# Altium footprint library aPassive.PcbLib: 212 footprints (part 3 of 14)
Each footprint in its own frame and in the unit in brackets; x right, y up, seen from the top. Pads: shape width x height; smd on the part's side, far side on the other; paste and mask are expansions set on the pad; w line width, h text height; cw(c..) or ccw(c..) is an arc to the next point about the centre after c.
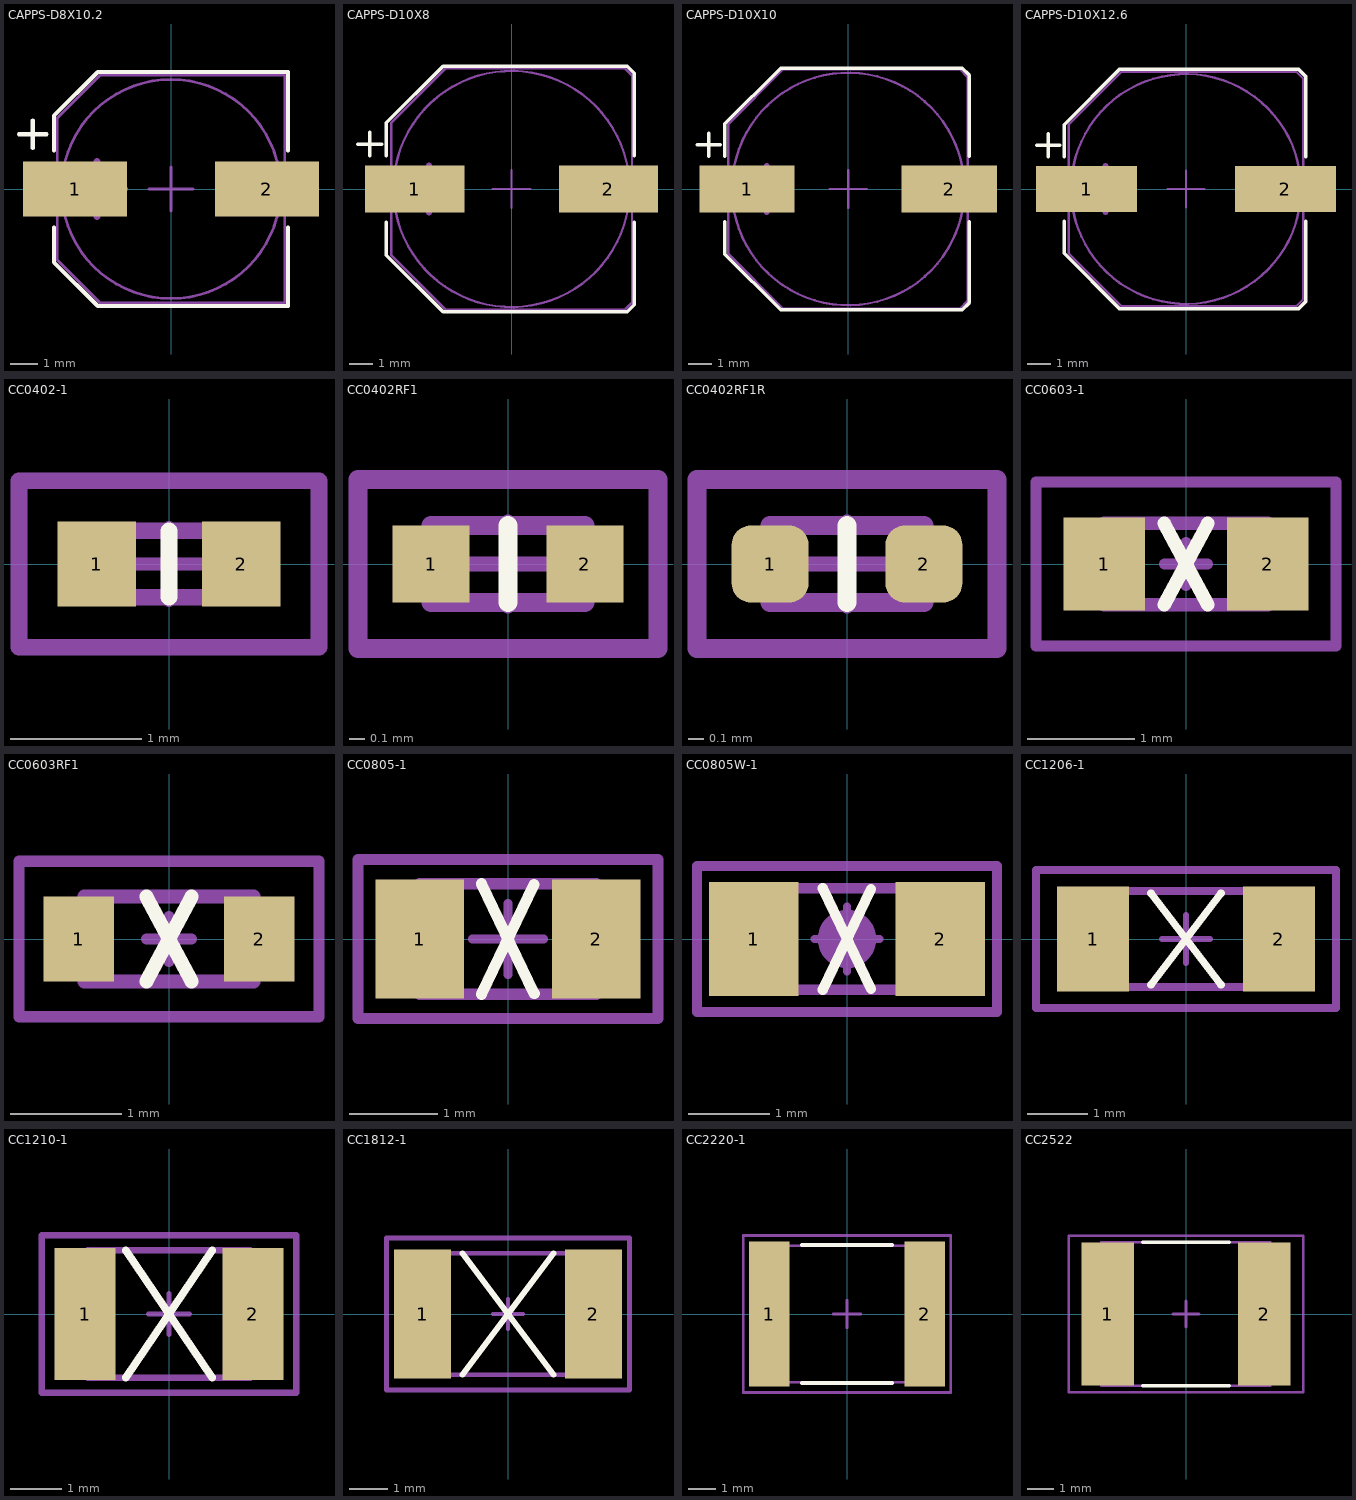
[diagram p2: the footprints below, top view; thin cyan lines are the x and y axes]

## CAPPS-D8X10.2 [mm] "Capacitor polarised SMD D8; 8.3X8.3X10.2"
height 10.2
pads (2):
  rect 3.8x2 smd: 1(-3.5,0) 2(3.5,0)
Top Overlay:
  lines w0.15: -5.55,2 -4.55,2 ; -5.05,1.5 -5.05,2.5 ; -4.275,-1.4 -4.275,-2.675 -2.675,-4.275 4.275,-4.275 4.275,-1.4 ; -4.275,1.4 -4.275,2.675 -2.675,4.275 4.275,4.275 4.275,1.4
Mechanical 13:
  circle w0.1: c0,0 r4
  lines w0.102: -4.15,-2.6 -2.6,-4.15 4.15,-4.15 4.15,4.15 -2.6,4.15 -4.15,2.6 -4.15,-2.6
  lines w0.25: -3.7,0 -1.7,0 ; -2.7,-1 -2.7,1
Mechanical 15:
  lines w0.102: -0.8,0 0.8,0 ; 0,-0.8 0,0.8
3D body: height 1.4, standoff 0, extent -4.15,-4.15 4.15,4.15
3D body: height 10.2, standoff 1.4, extent -4,-4 3.968,3.984
3D body: height 10.21, standoff 10.2, extent 1.9,-3.525 4,3.525

## CAPPS-D10X8 [mm] "Capacitor polarised SMD D10; 10.3X10.3X8mm"
height 8
pads (2):
  rect 4.2x2 smd: 1(-4.1,0) 2(4.1,0)
Top Overlay:
  lines w0.15: -6.5,1.9 -5.5,1.9 ; -6,1.4 -6,2.4 ; -5.3,-1.4 -5.3,-2.8 -2.9,-5.2 4.9,-5.2 5.2,-4.9 5.2,-1.4 ; -5.3,1.4 -5.3,2.8 -2.9,5.2 4.9,5.2 5.2,4.9 5.2,1.4
Mechanical 13:
  circle w0.1: c0,0 r5
  lines w0.102: -5.1,-2.8 -5.1,2.8 -2.8,5.1 4.8,5.1 5.1,4.8 5.1,-4.8 4.8,-5.1 -2.8,-5.1 -5.1,-2.8
  lines w0.25: -4.5,0 -2.5,0 ; -3.5,-1 -3.5,1
Mechanical 15:
  lines w0.102: -0.8,0 0.8,0 ; 0,-0.8 0,0.8
3D body: height 1.4, standoff 0, extent -5.1,-5.1 5.1,5.1
3D body: height 8, standoff 1.4, extent -5,-5 4.961,4.98
3D body: height 8.05, standoff 8, extent 2.75,-4.175 5,4.175

## CAPPS-D10X10 [mm] "Capacitor polarised SMD D10; 10.3x10.3x10mm"
height 10
pads (2):
  rect 4.1x2 smd: 1(-4.35,0) 2(4.35,0)
Top Overlay:
  lines w0.15: -6.5,1.9 -5.5,1.9 ; -6,1.4 -6,2.4 ; -5.3,-1.4 -5.3,-2.8 -2.9,-5.2 4.9,-5.2 5.2,-4.9 5.2,-1.4 ; -5.3,1.4 -5.3,2.8 -2.9,5.2 4.9,5.2 5.2,4.9 5.2,1.4
Mechanical 13:
  circle w0.1: c0,0 r5
  lines w0.102: -5.15,-2.8 -5.15,2.8 -2.8,5.15 4.8,5.15 5.15,4.8 5.15,-4.8 4.8,-5.15 -2.8,-5.15 -5.15,-2.8
  lines w0.25: -4.5,0 -2.5,0 ; -3.5,-1 -3.5,1
Mechanical 15:
  lines w0.102: -0.8,0 0.8,0 ; 0,-0.8 0,0.8
3D body: height 1.4, standoff 0, extent -5.15,-5.15 5.15,5.15
3D body: height 10, standoff 1.4, extent -5,-5 4.961,4.98
3D body: height 10.01, standoff 10, extent 2.75,-4.175 5,4.175

## CAPPS-D10X12.6 [mm] "Capacitor polarised SMD D10; 10.2x10.2x12.6mm"
height 12
pads (2):
  rect 4.4x2 smd: 1(-4.325,0) 2(4.325,0)
Top Overlay:
  lines w0.15: -6.5,1.9 -5.5,1.9 ; -6,1.4 -6,2.4 ; -5.3,-1.4 -5.3,-2.8 -2.9,-5.2 4.9,-5.2 5.2,-4.9 5.2,-1.4 ; -5.3,1.4 -5.3,2.8 -2.9,5.2 4.9,5.2 5.2,4.9 5.2,1.4
Mechanical 13:
  circle w0.1: c0,0 r5
  lines w0.102: -5.1,-2.8 -5.1,2.8 -2.8,5.1 4.8,5.1 5.1,4.8 5.1,-4.8 4.8,-5.1 -2.8,-5.1 -5.1,-2.8
  lines w0.25: -4.5,0 -2.5,0 ; -3.5,-1 -3.5,1
Mechanical 15:
  lines w0.102: -0.8,0 0.8,0 ; 0,-0.8 0,0.8
3D body: height 1.4, standoff 0, extent -5.1,-5.1 5.1,5.1
3D body: height 12.6, standoff 1.4, extent -5,-5 4.961,4.98
3D body: height 12.65, standoff 12.6, extent 2.75,-4.175 5,4.175

## CC0402-1 [mm] "Chip capacitor 0402"
height 0.5
pads (2):
  rect 0.6x0.65 smd: 1(-0.55,0) 2(0.55,0)
Top Overlay:
  lines w0.127: 0,-0.254 0,0.254
Mechanical 13:
  lines w0.127: -0.508,-0.254 0.508,-0.254 0.508,0.254 -0.508,0.254 -0.508,-0.254
Mechanical 15:
  lines w0.102: -0.3,0 0.3,0 ; 0,-0.275 0,0.275
  lines w0.127: -1.143,-0.635 -1.143,0.635 1.143,0.635 1.143,-0.635 -1.143,-0.635
3D body: height 0.5, standoff 0, extent -0.3,-0.254 0.3,0.254
3D body: height 0.5, standoff 0, extent 0.3,-0.254 0.508,0.254
3D body: height 0.5, standoff 0, extent -0.508,-0.254 -0.3,0.254

## CC0402RF1 [mil] "Chip capacitor 0402 RF pad"
height 19.68
pads (2):
  rect 20x20 smd: 1(-20,0) 2(20,0)
Top Overlay:
  lines w5: 0,-10 0,10
Mechanical 13:
  lines w5: -20,-10 20,-10 20,10 -20,10 -20,-10
Mechanical 15:
  lines w4: -11.81,0 11.81,0 ; 0,-10.83 0,10.83
  lines w5: -39,-22 -39,22 39,22 39,-22 -39,-22
3D body: height 19.68, standoff 0, extent -11.81,-10 11.81,10
3D body: height 19.68, standoff 0, extent 11.81,-10 20,10
3D body: height 19.68, standoff 0, extent -20,-10 -11.81,10

## CC0402RF1R [mil] "Chip capacitor 0402 RF ROUND pad"
height 19.68
pads (2):
  rrect50% 20x20 smd mask+1: 1(-20,0) 2(20,0)
Top Overlay:
  lines w5: 0,-10 0,10
Mechanical 13:
  lines w5: -20,-10 20,-10 20,10 -20,10 -20,-10
Mechanical 15:
  lines w4: -11.81,0 11.81,0 ; 0,-10.83 0,10.83
  lines w5: -39,-22 -39,22 39,22 39,-22 -39,-22
3D body: height 19.68, standoff 0, extent -11.81,-10 11.81,10
3D body: height 19.68, standoff 0, extent 11.81,-10 20,10
3D body: height 19.68, standoff 0, extent -20,-10 -11.81,10

## CC0603-1 [mil] "Chip capacitor 0603"
height 31.5
pads (2):
  rect 30x34 smd: 1(-30,0) 2(30,0)
Top Overlay:
  lines w5: -8,-15 8,15 ; -8,15 8,-15
Mechanical 13:
  lines w5: -30,-15 30,-15 30,15 -30,15 -30,-15
Mechanical 15:
  lines w3.94: -7.87,0 7.87,0 ; 0,-7.87 0,7.87
  lines w4: -55,-30 55,-30 55,30 -55,30 -55,-30
3D body: height 27.56, standoff 0, extent -20,-15 20,15
3D body: height 27.56, standoff 0, extent 20,-15 30,15
3D body: height 27.56, standoff 0, extent -30,-15 -20,15

## CC0603RF1 [mil] "Chip capacitor 0603 RF pad"
height 31.5
pads (2):
  rect 25x30 smd: 1(-32,0) 2(32,0)
Top Overlay:
  lines w5: -8,-15 8,15 ; -8,15 8,-15
Mechanical 13:
  lines w5: -30,-15 -30,15 30,15 30,-15 -30,-15
Mechanical 15:
  lines w3.94: -7.87,0 7.87,0 ; 0,-7.87 0,7.87
  lines w4: -53.15,-27.56 53.15,-27.56 53.15,27.56 -53.15,27.56 -53.15,-27.56
3D body: height 27.56, standoff 0, extent -30,-15 -20,15
3D body: height 27.56, standoff 0, extent 20,-15 30,15
3D body: height 27.56, standoff 0, extent -20,-15 20,15

## CC0805-1 [mm] "Chip capacitor  0805"
height 1.35
pads (2):
  rect 1x1.35 smd: 1(-1,0) 2(1,0)
Top Overlay:
  lines w0.127: -0.3,-0.625 0.296,0.616 ; -0.3,0.625 0.296,-0.618
Mechanical 13:
  lines w0.127: -1,-0.625 1,-0.625 1,0.625 -1,0.625 -1,-0.625
Mechanical 15:
  lines w0.102: -0.4,0 0.4,0 ; 0,-0.4 0,0.4
  lines w0.127: -1.7,-0.9 1.7,-0.9 1.7,0.9 -1.7,0.9 -1.7,-0.9
3D body: height 1, standoff 0, extent -1,-0.625 -0.6,0.625
3D body: height 1, standoff 0, extent 0.6,-0.625 1,0.625
3D body: height 1, standoff 0, extent -0.6,-0.625 0.6,0.625

## CC0805W-1 [mm] "Chip capacitor  0805 wave solder"
height 1.35
pads (2):
  rect 1.1x1.4 smd: 1(-1.15,0) 2(1.15,0)
Top Overlay:
  lines w0.127: -0.3,-0.625 0.296,0.616 ; -0.3,0.625 0.296,-0.618
Mechanical 13:
  lines w0.127: -1,-0.625 1,-0.625 1,0.625 -1,0.625 -1,-0.625
Mechanical 15:
  lines w0.102: -0.4,0 0.4,0 ; 0,-0.4 0,0.4
  lines w0.127: -1.85,-0.9 1.85,-0.9 1.85,0.9 -1.85,0.9 -1.85,-0.9
Mechanical 16:
  circle w0.37: c0,0 r0.175
3D body: height 1, standoff 0, extent -1,-0.625 -0.6,0.625
3D body: height 1, standoff 0, extent 0.6,-0.625 1,0.625
3D body: height 1, standoff 0, extent -0.6,-0.625 0.6,0.625

## CC1206-1 [mm] "Chip capacitor 1206 (3216)"
height 1.3
pads (2):
  rect 1.2x1.75 smd: 1(-1.55,0) 2(1.55,0)
Top Overlay:
  lines w0.127: -0.584,-0.762 0.584,0.762 ; -0.584,0.762 0.584,-0.762
Mechanical 13:
  lines w0.127: -1.6,-0.8 -1.6,0.8 1.6,0.8 1.6,-0.8 -1.6,-0.8
Mechanical 15:
  lines w0.102: -0.4,0 0.4,0 ; 0,-0.4 0,0.4
  lines w0.127: -2.5,-1.15 2.5,-1.15 2.5,1.15 -2.5,1.15 -2.5,-1.15
3D body: height 1.35, standoff 0, extent -1.1,-0.8 1.1,0.8
3D body: height 1.35, standoff 0, extent -1.6,-0.8 -1.1,0.8
3D body: height 1.35, standoff 0, extent 1.1,-0.8 1.6,0.8

## CC1210-1 [mm] "Chip capacitor 1210 (3225)"
height 1.7
pads (2):
  rect 1.2x2.6 smd: 1(-1.65,0) 2(1.65,0)
Top Overlay:
  lines w0.15: -0.85,-1.25 0.85,1.25 ; -0.85,1.25 0.85,-1.25
Mechanical 13:
  lines w0.127: -1.6,-1.25 1.6,-1.25 1.6,1.25 -1.6,1.25 -1.6,-1.25
Mechanical 15:
  lines w0.102: -0.4,0 0.4,0 ; 0,-0.4 0,0.4
  lines w0.127: -2.5,-1.55 -2.5,1.55 2.5,1.55 2.5,-1.55 -2.5,-1.55
3D body: height 1.5, standoff 0, extent 1.1,-1.25 1.6,1.25
3D body: height 1.5, standoff 0, extent -1.1,-1.25 1.1,1.25
3D body: height 1.5, standoff 0, extent -1.6,-1.25 -1.1,1.25

## CC1812-1 [mm] "Chip capacitor 1812 (4532)"
height 1.3
pads (2):
  rect 1.5x3.4 smd: 1(-2.25,0) 2(2.25,0)
Top Overlay:
  lines w0.15: -1.2,-1.6 1.2,1.6 ; -1.2,1.6 1.2,-1.6
Mechanical 13:
  lines w0.127: -2.25,-1.6 -2.25,1.6 2.25,1.6 2.25,-1.6 -2.25,-1.6
Mechanical 15:
  lines w0.102: -0.4,0 0.4,0 ; 0,-0.4 0,0.4
  lines w0.127: -3.2,-2 3.2,-2 3.2,2 -3.2,2 -3.2,-2
3D body: height 1.5, standoff 0, extent 1.6,-1.6 2.25,1.6
3D body: height 1.5, standoff 0, extent -1.6,-1.6 1.6,1.6
3D body: height 1.5, standoff 0, extent -2.25,-1.6 -1.6,1.6

## CC2220-1 [mm] "Chip capacitor 2220 (5750)"
height 1.3
pads (2):
  rect 1.5x5.3 smd: 1(-2.85,0) 2(2.85,0)
Top Overlay:
  lines w0.15: -1.65,-2.525 1.65,-2.525 ; -1.65,2.525 1.65,2.525
Mechanical 13:
  lines w0.1: -2.85,-2.5 -2.85,2.5 2.85,2.5 2.85,-2.5 -2.85,-2.5
Mechanical 15:
  lines w0.1: -0.5,0 0.5,0 ; 0,-0.5 0,0.5 ; -3.8,-2.875 -3.8,2.875 3.8,2.875 3.8,-2.875 -3.8,-2.875
3D body: height 1.8, standoff 0, extent 2.2,-2.5 2.85,2.5
3D body: height 1.8, standoff 0, extent -2.85,-2.5 -2.2,2.5
3D body: height 1.8, standoff 0, extent -2.2,-2.5 2.2,2.5

## CC2522 [mm] "Chip capacitor 6.5x5.5x5.5mm"
height 5.5
pads (2):
  rect 2x5.5 smd: 1(-3,0) 2(3,0)
Top Overlay:
  lines w0.15: -1.65,-2.75 1.65,-2.75 ; -1.65,2.75 1.65,2.75
Mechanical 13:
  lines w0.1: -3.251,-2.75 3.226,-2.75 3.226,2.75 -3.251,2.75 -3.251,-2.75
Mechanical 15:
  lines w0.1: -0.5,0 0.5,0 ; 0,-0.5 0,0.5 ; -4.5,-3 4.5,-3 4.5,3 -4.5,3 -4.5,-3
3D body: height 0.3, standoff 0, extent 2.338,-2.75 3.35,2.75
3D body: height 5.5, standoff 0, extent -3.35,-2.75 -3.275,2.75
3D body: height 5.5, standoff 3, extent -2.5,-2.75 2.5,2.75
3D body: height 2.8, standoff 0.3, extent -3.25,-2.75 -2.5,2.75
3D body: height 5.5, standoff 3, extent 2.5,-2.75 3.225,2.75
3D body: height 2.8, standoff 0.3, extent 2.5,-2.75 3.225,2.75
3D body: height 5.5, standoff 3, extent -3.225,-2.75 -2.5,2.75
3D body: height 2.8, standoff 0.3, extent -2.5,-2.75 2.5,2.75
3D body: height 0.3, standoff 0, extent -3.35,-2.75 -2.338,2.75
3D body: height 5.5, standoff 0, extent 3.275,-2.75 3.35,2.75